# Altium footprint library G5LE_relay.PcbLib: 1 footprints
Each footprint in its own frame and in the unit in brackets; x right, y up, seen from the top. Pads: shape width x height; smd on the part's side, far side on the other; paste and mask are expansions set on the pad; w line width, h text height; cw(c..) or ccw(c..) is an arc to the next point about the centre after c.
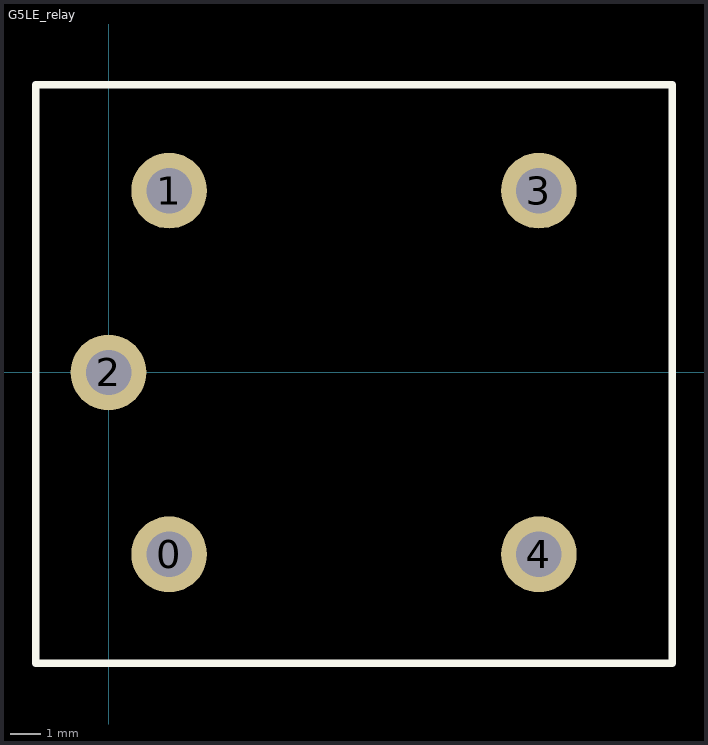
[diagram p0: the footprint, top view; thin cyan lines are the x and y axes]

## G5LE_relay [mm] "24 V Mechanical Relay"
pads (5):
  round 2.5 hole 1.5: 0(2,-6) 1(2,6) 2(0,0) 3(14.2,6) 4(14.2,-6)
Top Overlay:
  lines w0.254: -2.4,-7.7 -2.4,9.5 18.6,9.5 18.6,-9.6 -2.4,-9.6 -2.4,-7.4